# Altium schematic symbol library Maxim.SchLib: 1 symbol
Pins are listed as number, name and electrical type; pins without a type are passive.

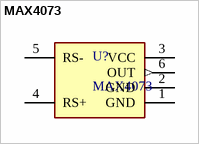
[diagram p0: symbol MAX4073]

## MAX4073
designator U?
Low-Cost, SC70, Voltage-Output, High-Side Current-Sense Amplifier (in SC70 or SOT23); Manufacturer: Maxim Integrated; Part Number: MAX4073; Value: MAX4073; Device Package: SOT23-6 / SC70-5; Mounting Type: SMT; Operating Temperature: *; Package / Case: *; Size / Dimension: *; Thickness (Max): *; Distributor link 1: *; Distributor link 2: *; Distributor link 3: *; Link: https://www.maximintegrated.com/en/products/analog/amplifiers/MAX4073T.html
pins: 1 GND (power), 2 GND (power), 3 VCC (power), 4 RS+, 5 RS-, 6 OUT (out)